# EAGLE library part LD39200PU33R_V-REG (library ZHAW_BA)
Spannungsregler, LD39200PU33R, 3.3V, 2A, 0.15mV DigiKey: Pt.Nr: 497-15229-1-ND https://www.digikey.ch/product-detail/de/stmicroelectronics/LD39200PU33R/497-15229-1-ND/5131765
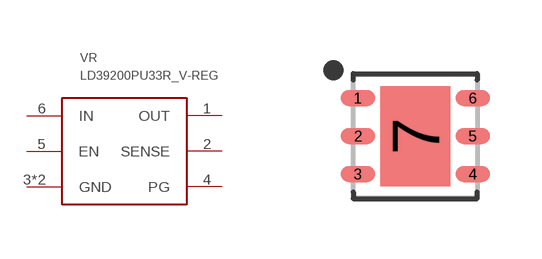
[diagram p12: symbol with the pads of DFN-6; footprint DFN-6]

Designator prefix VR

## LD39200PU33R_V-REG  [DFN-6]
1  OUT
2  SENSE
3  GND
4  PG
5  EN
6  IN
7  GND

## Footprint DFN-6 (pad centres in mm)
6-SON (DFN), 0.95 mm pitch, 3.00 X 3.00 X 1.00 mm body, 2.50 X 1.75 mm thermal pad 6-pin SON (DFN) package with 0.95 mm pitch with body size 3.00 X 3.00 X 1.00 mm and thermal pad size 2.50 X 1.75 mm
smd 0.86 x 0.397: 1 -1.435,0.95; 2 -1.435,0; 3 -1.435,-0.95; 4 1.435,-0.95; 5 1.435,0; 6 1.435,0.95
smd 1.75 x 2.5: 7 0,0